# Altium schematic symbol library 3 Digit 14 Segment Component.SchLib: 2 symbols
Pins are listed as number, name and electrical type; pins without a type are passive.

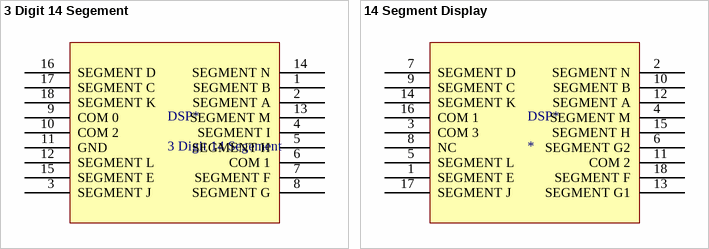
[diagram p0: symbols 3 Digit 14 Segement to 14 Segment Display]

## 3 Digit 14 Segement
designator DSP*
footprint 3 Digit 14 Segment
pins: 1 SEGMENT B, 2 SEGMENT A, 3 SEGMENT J, 4 SEGMENT I, 5 SEGMENT H, 6 COM 1, 7 SEGMENT F, 8 SEGMENT G, 9 COM 0, 10 COM 2, 11 GND, 12 SEGMENT L, 13 SEGMENT M, 14 SEGMENT N, 15 SEGMENT E, 16 SEGMENT D, 17 SEGMENT C, 18 SEGMENT K

## 14 Segment Display
designator DSP*
footprint 14 Segment Display CS
pins: 1 SEGMENT E, 2 SEGMENT N, 3 COM 3, 4 SEGMENT M, 5 SEGMENT L, 6 SEGMENT G2, 7 SEGMENT D, 8 NC, 9 SEGMENT C, 10 SEGMENT B, 11 COM 2, 12 SEGMENT A, 13 SEGMENT G1, 14 SEGMENT K, 15 SEGMENT H, 16 COM 1, 17 SEGMENT J, 18 SEGMENT F